# Altium footprint library TO.PcbLib: 55 footprints (part 3 of 4)
Each footprint in its own frame and in the unit in brackets; x right, y up, seen from the top. Pads: shape width x height; smd on the part's side, far side on the other; paste and mask are expansions set on the pad; w line width, h text height; cw(c..) or ccw(c..) is an arc to the next point about the centre after c.
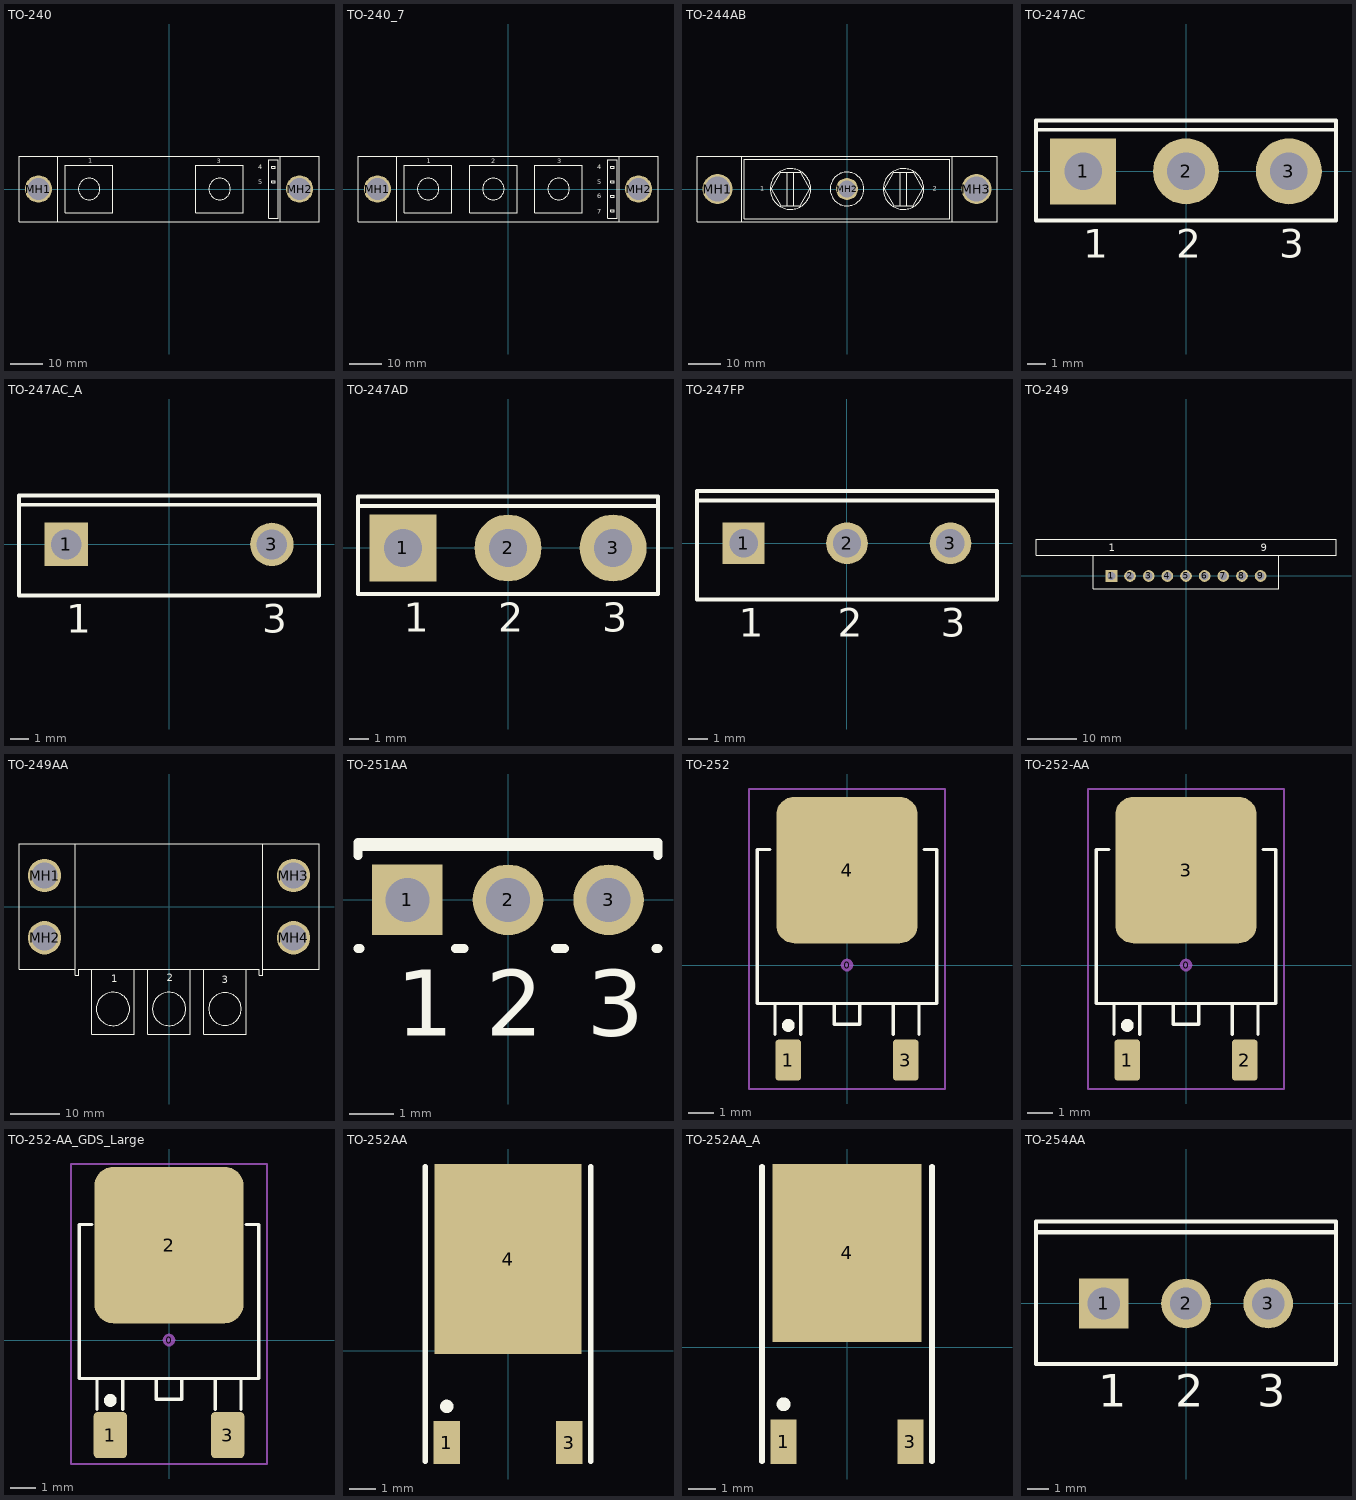
[diagram p2: the footprints below, top view; thin cyan lines are the x and y axes]

## TO-240 [mm] "Power Module/TO-240-AA; 2 Screw & 2 Quick-Connect Terminals; Body 92 x 20 x 37 mm (LxWxH)"
height 37
pads (2):
  round 8.3 hole 6.8: MH1(-40.005,0) MH2(40.005,0)
Top Overlay:
  circle w0.2: c-24.474,0 r3.3
  circle w0.2: c15.526,0 r3.3
  lines w0.2: -34.108,-9.995 -34.108,9.995 ; 34.108,-9.995 34.108,9.995 ; -45.974,-9.995 45.974,-9.995 45.974,9.995 -45.974,9.995 -45.974,-9.995 ; -31.774,-7.3 -31.774,7.3 -17.174,7.3 -17.174,-7.3 -31.774,-7.3 ; 8.226,-7.3 22.826,-7.3 22.826,7.3 8.226,7.3 8.226,-7.3 ; 30.526,-9 33.526,-9 33.526,9 30.526,9 30.526,-9 ; 31.526,1.969 31.526,2.469 32.526,2.469 32.526,1.969 31.526,1.969 ; 31.526,6.406 31.526,6.906 32.526,6.906 32.526,6.406 31.526,6.406
  text "3" at 14.652,7.962 h1.5
  text "1" at -24.676,8.078 h1.5
  text "5" at 27.349,1.447 h1.5
  text "4" at 27.349,6.104 h1.5

## TO-240_7 [mm] "Power Module/TO-240-AA; 3 Screw & 4 Quick-Connect Terminals; Body 92 x 20 x 37 mm (LxWxH)"
height 37
pads (2):
  round 8.3 hole 6.8: MH1(-40.005,0) MH2(40.005,0)
Top Overlay:
  circle w0.2: c15.526,0 r3.3
  circle w0.2: c-4.474,0 r3.3
  circle w0.2: c-24.474,0 r3.3
  lines w0.2: -34.108,-9.995 -34.108,9.995 ; 34.108,-9.995 34.108,9.995 ; -45.974,-9.995 -45.974,9.995 45.974,9.995 45.974,-9.995 -45.974,-9.995 ; -31.774,-7.3 -17.174,-7.3 -17.174,7.3 -31.774,7.3 -31.774,-7.3 ; -11.774,-7.3 -11.774,7.3 2.826,7.3 2.826,-7.3 -11.774,-7.3 ; 8.226,-7.3 8.226,7.3 22.826,7.3 22.826,-7.3 8.226,-7.3 ; 30.526,-9 30.526,9 33.526,9 33.526,-9 30.526,-9 ; 31.526,-6.906 32.526,-6.906 32.526,-6.406 31.526,-6.406 31.526,-6.906 ; 31.526,-2.469 32.526,-2.469 32.526,-1.969 31.526,-1.969 31.526,-2.469 ; 31.526,1.969 32.526,1.969 32.526,2.469 31.526,2.469 31.526,1.969 ; 31.526,6.406 32.526,6.406 32.526,6.906 31.526,6.906 31.526,6.406
  text "4" at 27.349,6.104 h1.5
  text "7" at 27.349,-7.633 h1.5
  text "6" at 27.291,-2.802 h1.5
  text "5" at 27.349,1.447 h1.5
  text "2" at -5.113,7.876 h1.5
  text "3" at 15.084,7.876 h1.5
  text "1" at -24.906,7.962 h1.5

## TO-244AB [mm] "Rectangular Flange Mount/TO-244-AB; 2 Screw Terminals; Body 92.71 x 20.32 x 23.55 mm (LxWxH max)"
height 23.55
pads (3):
  round 9.3 hole 7.8: MH1(-40.005,0) MH3(40.005,0)
  round 6.8 hole 5.3: MH2(0,0)
Top Overlay:
  circle w0.2: c-17.462,0 r6.26
  circle w0.2: c17.462,0 r6.26
  circle w0.2: c0,0 r5.205
  lines w0.2: -32.5,-10.16 -32.5,10.16 ; -20.467,-5.152 -23.472,0 ; -18.465,-5.205 -18.465,5.205 ; -16.46,-5.205 -16.46,5.205 ; 16.46,-5.205 16.46,5.205 ; 18.465,-5.205 18.465,5.205 ; 32.5,-10.16 32.5,10.16 ; -23.472,0 -20.467,-5.205 -14.458,-5.205 -11.453,0 -14.458,5.205 -20.467,5.205 -23.472,0 ; -46.355,-10.16 46.355,-10.16 46.355,10.16 -46.355,10.16 -46.355,-10.16 ; -31.75,-9.16 -31.75,9.16 31.75,9.16 31.75,-9.16 -31.75,-9.16 ; 11.453,0 14.458,-5.205 20.467,-5.205 23.472,0 20.467,5.205 14.458,5.205 11.453,0
  text "1" at -26.82,-0.54 h1.5
  text "2" at 26.554,-0.54 h1.5

## TO-247AC [mm] "SIP with Mounting Hole; 3 Leads; Body 20 x 15.6 x 5 mm (typ); Pitch 5.45 mm"
height 24.6
pads (3):
  rect 3.5x3.5 hole 2: 1(-5.45,0)
  round 3.5 hole 2: 2(0,0) 3(5.45,0)
Top Overlay:
  lines w0.2: -7.95,2.2 7.95,2.2 ; -7.95,-2.6 7.95,-2.6 7.95,2.7 -7.95,2.7 -7.95,-2.6
  text "1" at -5.45,-4.575 h1.5
  text "2" at -0.508,-4.575 h1.5
  text "3" at 4.942,-4.575 h1.5
3D body "User Library-TO_247.step": height 30, standoff -6.05, extent -7.9,-2.413 7.9,2.897

## TO-247AC_A [mm] "SIP with Mounting Hole; 2 Leads; Body 20 x 15.6 x 5 mm (typ)"
height 24.6
pads (2):
  rect 2.3x2.3 hole 1.6: 1(-5.45,0)
  round 2.3 hole 1.6: 3(5.45,0)
Top Overlay:
  lines w0.2: -7.95,2.1 7.95,2.1 ; -7.95,-2.7 7.95,-2.7 7.95,2.6 -7.95,2.6 -7.95,-2.7
  text "3" at 4.942,-4.675 h1.5
  text "1" at -5.45,-4.675 h1.5

## TO-247AD [mm] "SIP with Mounting Hole; 3 Leads; Pitch 5.5 mm"
height 24.2
pads (3):
  rect 3.5x3.5 hole 2: 1(-5.5,0)
  round 3.5 hole 2: 2(0,0) 3(5.5,0)
Top Overlay:
  lines w0.2: -7.85,2.2 7.85,2.2 ; -7.85,-2.4 -7.85,2.7 7.85,2.7 7.85,-2.4 -7.85,-2.4
  text "3" at 4.93,-4.375 h1.5
  text "2" at -0.52,-4.375 h1.5
  text "1" at -5.462,-4.375 h1.5
3D body "User Library-to-247ad.step": height 31, standoff -10.07, extent -7.949,-2.667 8.001,2.363

## TO-247FP [mm] "TO, Thru-Hole, Vertical, Heatsink Mounted; 3 In-Line Leads; Pitch 5.45 mm"
height 26.8
pads (3):
  rect 2.2x2.2 hole 1.5: 1(-5.45,0)
  round 2.2 hole 1.5: 2(0,0) 3(5.45,0)
Top Overlay:
  lines w0.2: -7.9,2.25 7.9,2.25 ; -7.9,-2.95 -7.9,2.75 7.9,2.75 7.9,-2.95 -7.9,-2.95
  text "3" at 4.95,-4.925 h1.5
  text "2" at -0.5,-4.925 h1.5
  text "1" at -5.7,-4.925 h1.5

## TO-249 [mm] "Rectangular Flange Mount, Thru-Hole; 9 Leads; Pitch 3.81 mm"
height 25.7
pads (9):
  rect 2.4x2.4 hole 1.6: 1(-15.24,0)
  round 2.4 hole 1.6: 2(-11.43,0) 3(-7.62,0) 4(-3.81,0) 5(0,0) 6(3.81,0) 7(7.62,0) 8(11.43,0) 9(15.24,0)
Top Overlay:
  lines w0.2: -18.95,4.25 -18.95,-2.65 18.95,-2.65 18.95,4.25 ; -30.65,4.25 -30.65,7.55 30.65,7.55 30.65,4.25 -30.65,4.25
  text "1" at -15.748,5.08 h1.5
  text "9" at 15.24,5.08 h1.5

## TO-249AA [mm] "Rectangular Flange Mount/TO-249-AA; 3 Terminals; Body 61.21 x 25.65 x 10.16 mm  (LxWxH max)"
height 10.16
pads (4):
  round 6.8 hole 5.3: MH1(-25.4,6.35) MH2(-25.4,-6.35) MH3(25.4,6.35) MH4(25.4,-6.35)
Top Overlay:
  circle w0.2: c-11.43,-20.877 r3.4
  circle w0.2: c0,-20.877 r3.4
  circle w0.2: c11.43,-20.877 r3.318
  lines w0.2: -19.177,12.827 -19.177,-12.827 ; -15.75,-12.827 -15.75,-26.037 -7.11,-26.037 -7.11,-12.827 ; -4.32,-12.827 -4.32,-26.037 4.32,-26.037 4.32,-12.827 ; 7.11,-12.827 7.11,-26.037 15.75,-26.037 15.75,-12.827 ; 19.177,12.827 19.177,-12.827 ; -19.177,-12.827 -30.607,-12.827 -30.607,12.827 30.607,12.827 30.607,-12.827 19.177,-12.827 ; -19.177,-12.827 -19.177,-13.967 -18.427,-13.967 -18.427,-12.827 18.427,-12.827 18.427,-13.967 19.177,-13.967 19.177,-12.827
  text "1" at -11.794,-15.431 h1.5
  text "2" at -0.497,-15.276 h1.5
  text "3" at 10.799,-15.586 h1.5

## TO-251AA [mm] "TO, Thru-Hole, Vertical, Heatsink Mounted; 3 In-Line Leads; Pitch 2.28 mm"
height 9.7
pads (3):
  rect 1.6x1.6 hole 1: 1(-2.28,0)
  round 1.6 hole 1: 2(0,0) 3(2.28,0)
Top Overlay:
  lines w0.2: -3.4,-1.1 -3.35,-1.1 ; -3.4,1 -3.4,1.3 3.4,1.3 3.4,1 ; -3.4,1.21 3.4,1.21 ; -1.19,-1.1 -0.99,-1.1 ; 1.08,-1.1 1.28,-1.1 ; 3.35,-1.1 3.4,-1.1
  text "1" at -2.53,-3.075 h1.5
  text "2" at -0.5,-3.075 h1.5
  text "3" at 1.78,-3.075 h1.5

## TO-252 [mm] "D-PAK/TO-252-AA; 3 Leads (1 Cropped); Body 10.3 (inc. leads) x 6.7 mm (LxW max)"
height 2.38
pads (4):
  round 0.5 on Mech15: 0(0,0)
  rrect25% 1x1.6 smd: 1(-2.285,-3.7) 3(2.285,-3.7)
  rrect25% 5.5x5.7 smd: 4(0,3.7)
Top Overlay:
  circle w0.25: c-2.285,-2.35 r0.125
  lines w0.127: -3,4.5 -3.5,4.5 -3.5,-1.5 3.5,-1.5 3.5,4.5 3,4.5 ; -2.8,-2.7 -2.8,-1.5 -1.8,-1.5 -1.8,-2.7 ; 1.8,-2.7 1.8,-1.5 2.8,-1.5 2.8,-2.7 ; -0.5,-2.3 -0.5,-1.5 0.5,-1.5 0.5,-2.3 -0.5,-2.3
Mechanical 15:
  lines w0.076: -3.81,-4.826 -3.81,6.858 3.81,6.858 3.81,-4.826 -3.81,-4.826
3D body "DPAK.stp": height 2.31, standoff 0, extent -3.3,-3.951 3.3,5.762

## TO-252-AA [mm] "D-PAK/TO-252-AA; 3 Leads (1 Cropped); Body 10.3 (inc. leads) x 6.7 mm (LxW max)"
height 2.38
pads (4):
  round 0.5 on Mech15: 0(0,0)
  rrect25% 1x1.6 smd: 1(-2.285,-3.7) 2(2.285,-3.7)
  rrect25% 5.5x5.7 smd: 3(0,3.7)
Top Overlay:
  circle w0.25: c-2.285,-2.35 r0.125
  lines w0.127: -3,4.5 -3.5,4.5 -3.5,-1.5 3.5,-1.5 3.5,4.5 3,4.5 ; -2.8,-2.7 -2.8,-1.5 -1.8,-1.5 -1.8,-2.7 ; 1.8,-2.7 1.8,-1.5 2.8,-1.5 2.8,-2.7 ; -0.5,-2.3 -0.5,-1.5 0.5,-1.5 0.5,-2.3 -0.5,-2.3
Mechanical 15:
  lines w0.076: -3.81,-4.826 -3.81,6.858 3.81,6.858 3.81,-4.826 -3.81,-4.826
3D body "DPAK.stp": height 2.31, standoff 0, extent -3.3,-3.951 3.3,5.762

## TO-252-AA_GDS_Large [mm] "D-PAK/TO-252-AA; 3 Leads (1 Cropped); Body 10.3 (inc. leads) x 6.7 mm (LxW max)"
height 2.38
pads (4):
  round 0.5 on Mech15: 0(0,0)
  rrect25% 1.3x1.8 smd: 1(-2.285,-3.7) 3(2.285,-3.7)
  rrect25% 5.8x6.1 smd: 2(0,3.7)
Top Overlay:
  circle w0.25: c-2.285,-2.35 r0.125
  lines w0.127: -3,4.5 -3.5,4.5 -3.5,-1.5 3.5,-1.5 3.5,4.5 3,4.5 ; -2.8,-2.7 -2.8,-1.5 -1.8,-1.5 -1.8,-2.7 ; 1.8,-2.7 1.8,-1.5 2.8,-1.5 2.8,-2.7 ; -0.5,-2.3 0.5,-2.3 0.5,-1.5 -0.5,-1.5 -0.5,-2.3
Mechanical 15:
  lines w0.076: -3.81,-4.826 3.81,-4.826 3.81,6.858 -3.81,6.858 -3.81,-4.826
3D body "User Library-TO-252-3.STEP": height 2.41, standoff 0, extent -3.325,-4.202 3.375,6.15

## TO-252AA [mm] "D-PAK/TO-252-AA; 3 Leads (1 Cropped); Body 10.4 (inc. leads) x 6.7 mm (LxW max)"
height 2.38
pads (3):
  rect 1x1.6 smd: 1(-2.285,-3.425) 3(2.285,-3.425)
  rect 5.5x7.1 smd: 4(0,3.425)
Top Overlay:
  circle w0.25: c-2.285,-2.075 r0.125
  lines w0.2: -3.085,-4.125 -3.085,6.875 ; 3.085,-4.125 3.085,6.875
3D body "User Library-TO-252-3.STEP": height 2.41, standoff 0, extent -3.35,-4.077 3.35,6.275

## TO-252AA_A [mm] "D-PAK/TO-252-AA; 3 Leads (1 Cropped); Body 10.2 (inc. leads) x 6.7 mm (LxW max)"
height 2.38
pads (3):
  rect 0.95x1.6 smd: 1(-2.285,-3.4) 3(2.285,-3.4)
  rect 5.35x6.4 smd: 4(0,3.4)
Top Overlay:
  circle w0.25: c-2.285,-2.05 r0.125
  lines w0.2: -3.06,-4.1 -3.06,6.5 ; 3.06,-4.1 3.06,6.5

## TO-254AA [mm] "TO, Thru-Hole, Vertical, Heatsink Mounted; 3 In-Line Leads; Pitch 3.81 mm"
height 20.3
pads (3):
  rect 2.3x2.3 hole 1.5: 1(-3.81,0)
  round 2.3 hole 1.5: 2(0,0) 3(3.81,0)
Top Overlay:
  lines w0.2: -6.95,3.3 6.95,3.3 ; -6.95,-2.8 6.95,-2.8 6.95,3.8 -6.95,3.8 -6.95,-2.8
  text "1" at -4.06,-4.775 h1.5
  text "2" at -0.5,-4.775 h1.5
  text "3" at 3.31,-4.775 h1.5